# EAGLE library part JTAG_CONN (library Skippy-Connectors)
Header 5x2 Standard 10-pin dual row 0.1" header. Commonly used with AVR-ISP. Use with Spark Fun Electronics SKU: PRT-00778
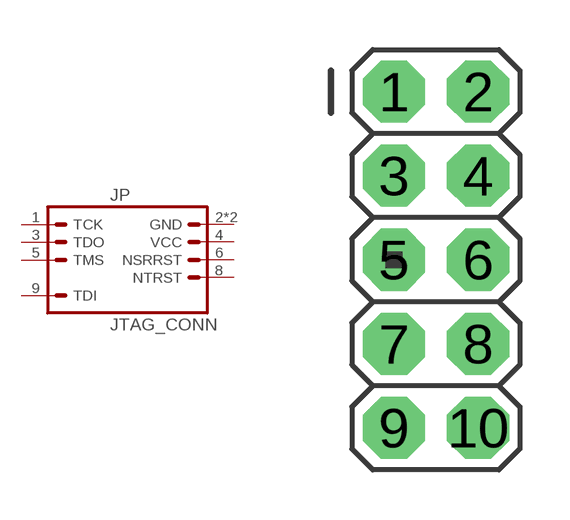
[diagram p0: symbol with the pads of AVR_ICSP; footprint AVR_ICSP]

Designator prefix JP

## JTAG_CONNPTH  [AVR_ICSP]
1  TCK  pas
2  GND  pwr
3  TDO  pas
4  VCC  pas
5  TMS  pas
6  NSRRST  pas
8  NTRST  pas
9  TDI  pas
10  GND  pwr

## Footprint AVR_ICSP (pad centres in mm)
PIN HEADER
drill 1.016 pad 1.88 octagon: 1 -1.27,5.08; 2 1.27,5.08; 3 -1.27,2.54; 4 1.27,2.54; 5 -1.27,0; 6 1.27,0; 7 -1.27,-2.54; 8 1.27,-2.54; 9 -1.27,-5.08; 10 1.27,-5.08